# Altium footprint library ImegurasLib.PcbLib: 41 footprints (part 2 of 3)
Each footprint in its own frame and in the unit in brackets; x right, y up, seen from the top. Pads: shape width x height; smd on the part's side, far side on the other; paste and mask are expansions set on the pad; w line width, h text height; cw(c..) or ccw(c..) is an arc to the next point about the centre after c.
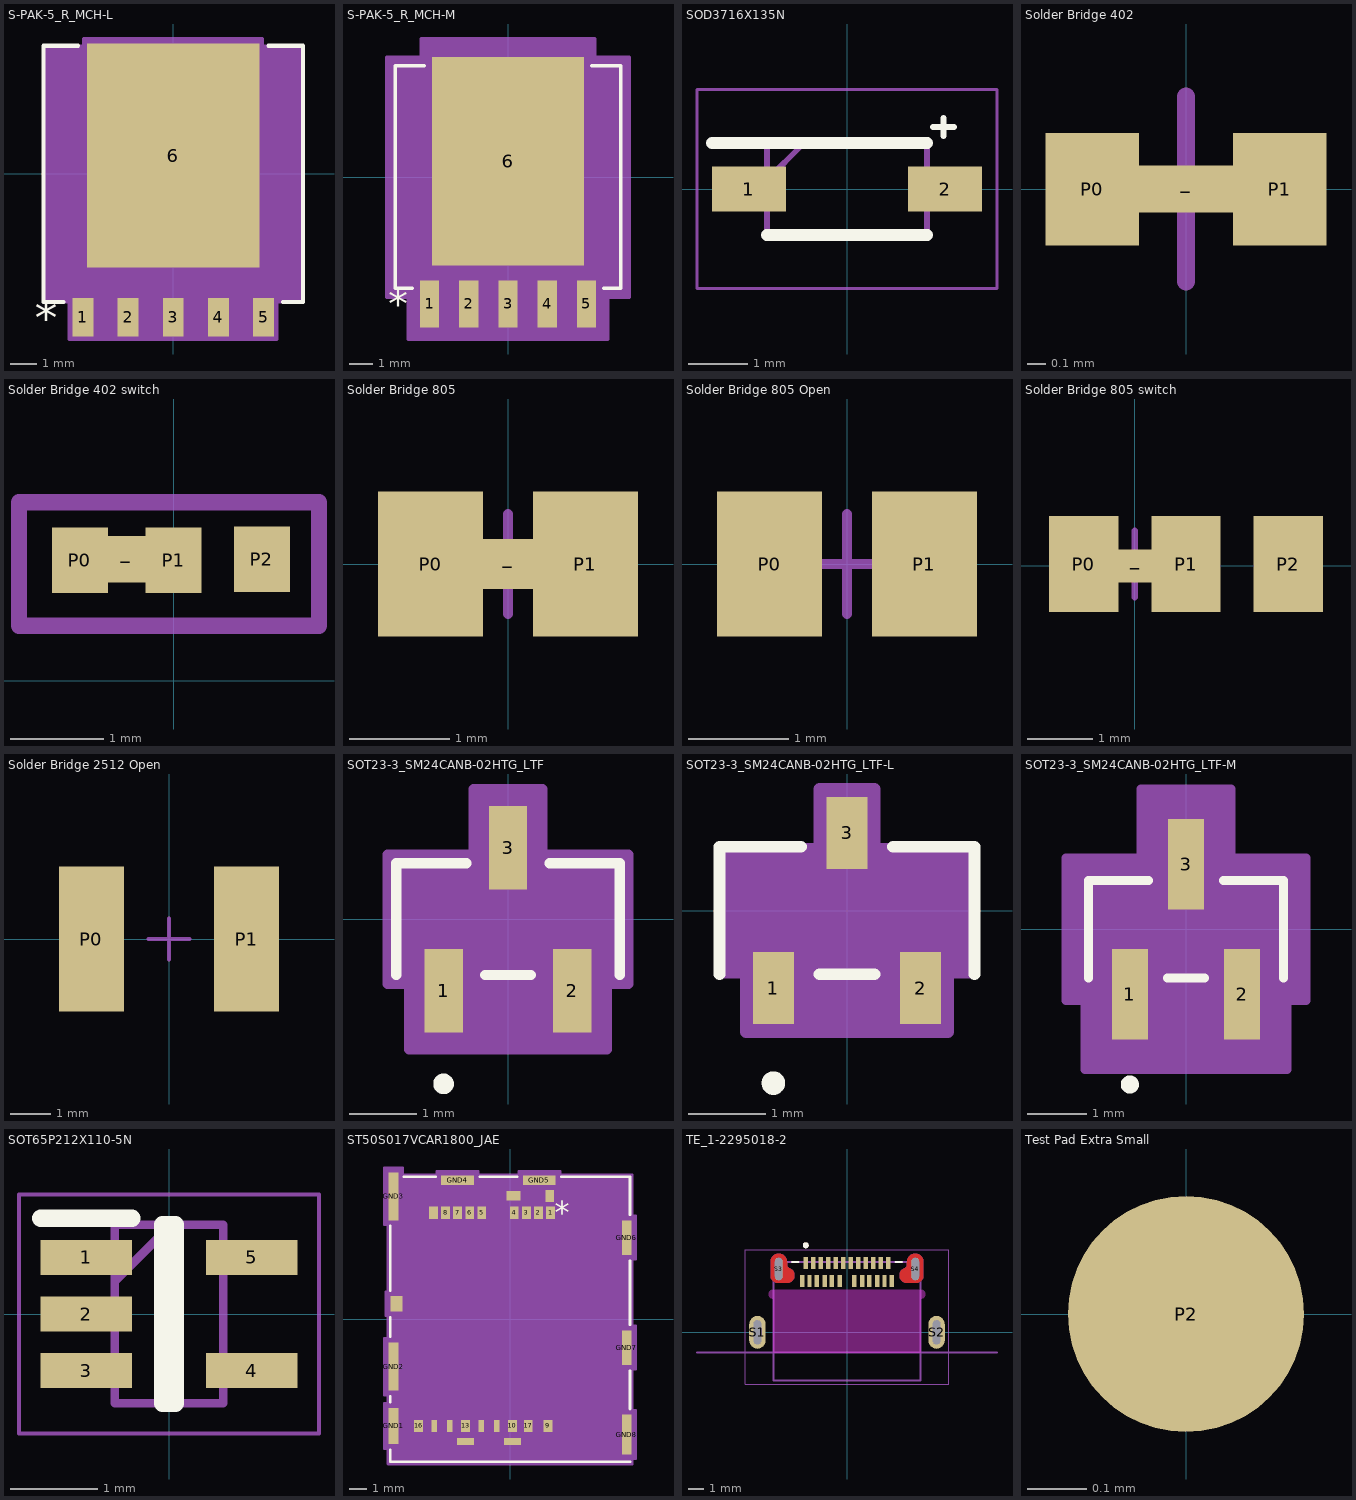
[diagram p1: the footprints below, top view; thin cyan lines are the x and y axes]

## S-PAK-5_R_MCH-L [mil]
pads (6):
  rect 31x56.75 smd paste+0 mask+0: 1(-134,-212.53) 2(-67,-212.53) 3(0,-212.53) 4(67,-212.53) 5(134,-212.53)
  rect 256x332 smd paste+0 mask+0: 6(0,27)
Top Overlay:
  lines w6: -162.6,-190 -192.5,-190 -192.5,190 -141.1,190 ; 141.1,190 192.5,190 192.5,-190 162.6,-190
  text "*" at -205,-237.53 h50
Mechanical 13:
  lines w1: -187.5,-185 -187.5,185 187.5,185 187.5,-185 -187.5,-185 ; -149.5,-235 -118.5,-235 -118.5,-185 -149.5,-185 -149.5,-235 ; -82.5,-235 -51.5,-235 -51.5,-185 -82.5,-185 -82.5,-235 ; -15.5,-235 15.5,-235 15.5,-185 -15.5,-185 -15.5,-235 ; -7.5,-200 7.5,-200 7.5,-185 -7.5,-185 -7.5,-200 ; 51.5,-235 82.5,-235 82.5,-185 51.5,-185 51.5,-235 ; 118.5,-235 149.5,-235 149.5,-185 118.5,-185 118.5,-235
  text "*" at -146.5,-200 h50
Mechanical 15:
  region: -191.5,-189 -191.5,189 -132,189 -132,200 132,200 132,189 191.5,189 191.5,-189 153.5,-189 153.5,-244.91 -153.5,-244.91 -153.5,-189
  lines w6: -191.5,-189 -153.5,-189 -153.5,-244.91 153.5,-244.91 153.5,-189 191.5,-189 191.5,189 132,189 132,200 -132,200 -132,189 -191.5,189 -191.5,-189
3D body "S-PAK-5_R_MCH.step": height 67.09, standoff -2.01, extent -187.48,-235 187.48,185

## S-PAK-5_R_MCH-M [mil]
pads (6):
  rect 32.97x80.37 smd paste+0 mask+0: 1(-134,-216.47) 2(-67,-216.47) 3(0,-216.47) 4(67,-216.47) 5(134,-216.47)
  rect 260x356 smd paste+0 mask+0: 6(0,27)
Top Overlay:
  lines w6: -163.58,-190 -192.5,-190 -192.5,190 -143.1,190 ; 143.1,190 192.5,190 192.5,-190 163.58,-190
  text "*" at -205,-241.47 h50
Mechanical 13:
  lines w1: -187.5,-185 -187.5,185 187.5,185 187.5,-185 -187.5,-185 ; -149.5,-235 -118.5,-235 -118.5,-185 -149.5,-185 -149.5,-235 ; -82.5,-235 -51.5,-235 -51.5,-185 -82.5,-185 -82.5,-235 ; -15.5,-235 15.5,-235 15.5,-185 -15.5,-185 -15.5,-235 ; -7.5,-200 7.5,-200 7.5,-185 -7.5,-185 -7.5,-200 ; 51.5,-235 82.5,-235 82.5,-185 51.5,-185 51.5,-235 ; 118.5,-235 149.5,-235 149.5,-185 118.5,-185 118.5,-235
  text "*" at -146.5,-200 h50
Mechanical 15:
  region: -207.5,-205 -207.5,205 -148,205 -148,236 148,236 148,205 207.5,205 207.5,-205 170.48,-205 170.48,-276.65 -170.48,-276.65 -170.48,-205
  lines w6: -207.5,-205 -170.48,-205 -170.48,-276.65 170.48,-276.65 170.48,-205 207.5,-205 207.5,205 148,205 148,236 -148,236 -148,205 -207.5,205 -207.5,-205
3D body "S-PAK-5_R_MCH.step": height 67.09, standoff -2.01, extent -187.48,-235 187.48,185

## SOD3716X135N [mm]
pads (2):
  rect 1.25x0.75 smd: 1(-1.65,0) 2(1.65,0)
Top Overlay:
  lines w0.1: 1.448,1.041 1.803,1.041 ; 1.626,1.041 1.626,0.889 1.626,1.194
  lines w0.2: -2.275,0.775 1.35,0.775 ; -1.35,-0.775 1.35,-0.775
Mechanical 15:
  lines w0.1: -1.35,0.15 -0.725,0.775 ; -1.35,-0.775 1.35,-0.775 1.35,0.775 -1.35,0.775 -1.35,-0.775
Mechanical 20:
  lines w0.05: -2.525,-1.675 2.525,-1.675 2.525,1.675 -2.525,1.675 -2.525,-1.675

## Solder Bridge 402 [mil] "Closed Solder Bridge"
height 23.23
pads (3):
  rect 50x10 smd: _(0,0)
  rect 20x24 smd: P0(-20,0) P1(20,0)
Mechanical 15:
  lines w3.94: -19.68,0 19.69,0 ; 0,-19.68 0,19.68

## Solder Bridge 402 switch [mm] "Closed Solder Bridge"
height 0.59
pads (4):
  rect 1x0.5 smd: _(-0.508,1.295)
  rect 0.6x0.7 smd: P0(-1.002,1.286) P1(-0.002,1.286) P2(0.94,1.295)
Mechanical 13:
  lines w0.175: -1.652,0.586 1.549,0.586 1.549,1.905 -1.652,1.905 -1.652,0.586
  text "'.Designator'" at -7.138,2.428 h1
3D body "C0402.step": height 0.37, standoff 0.01, extent -1.002,1.021 -0.002,1.551

## Solder Bridge 805 [mm] "Closed Solder Bridge"
height 0.59
pads (3):
  rect 1x0.5 smd: _(0,0)
  rect 1.05x1.45 smd: P0(-0.775,0) P1(0.775,0)
Top Solder:
  region: -0.229,0.711 0.203,0.711 0.203,-0.711 -0.229,-0.711
Mechanical 15:
  lines w0.1: -0.5,0 0.5,0 ; 0,-0.5 0,0.5

## Solder Bridge 805 Open [mm] "Open Solder Bridge"
height 0.59
pads (2):
  rect 1.05x1.45 smd: P0(-0.775,0) P1(0.775,0)
Mechanical 15:
  lines w0.1: -0.5,0 0.5,0 ; 0,-0.5 0,0.5

## Solder Bridge 805 switch [mm] "Closed Solder Bridge"
height 0.59
pads (4):
  rect 1x0.5 smd: _(0.013,-0.002)
  rect 1.05x1.45 smd: P0(-0.775,0.025) P1(0.775,0.025) P2(2.324,0.025)
Top Solder:
  region: 1.295,0.737 1.727,0.737 1.727,-0.686 1.295,-0.686
  region: -0.229,0.737 0.203,0.737 0.203,-0.686 -0.229,-0.686
Mechanical 15:
  lines w0.1: 0,-0.475 0,0.525

## Solder Bridge 2512 Open [mil] "Open Solder Bridge"
height 23.23
pads (2):
  rect 63x140 smd: P0(-75,0) P1(75,0)
Mechanical 15:
  lines w3.94: -19.68,0 19.69,0 ; 0,-19.68 0,19.68

## SOT23-3_SM24CANB-02HTG_LTF [mil]
pads (3):
  rect 22.36x48.56 smd paste+0 mask+0: 1(-37.5,-41.5) 2(37.5,-41.5) 3(0,41.5)
Top Overlay:
  circle w6: c-37.5,-95.78 r3
  lines w6: -65,-32.5 -65,32.5 -24.28,32.5 ; -13.22,-32.5 13.22,-32.5 ; 24.28,32.5 65,32.5 65,-32.5
Mechanical 13:
  circle w0: c-37.5,-17.5 r3
  lines w1: -60,-27.5 60,-27.5 60,27.5 -60,27.5 -60,-27.5 ; -47.5,-52 -47.5,-27.5 -27.5,-27.5 -27.5,-52 -47.5,-52 ; -10,27.5 10,27.5 10,52 -10,52 -10,27.5 ; 27.5,-52 27.5,-27.5 47.5,-27.5 47.5,-52 27.5,-52
Mechanical 15:
  region: -70,-37.5 -70,37.5 -20,37.5 -20,75.78 20,75.78 20,37.5 70,37.5 70,-37.5 57.5,-37.5 57.5,-75.78 -57.5,-75.78 -57.5,-37.5
  lines w6: -70,-37.5 -70,37.5 -20,37.5 -20,75.78 20,75.78 20,37.5 70,37.5 70,-37.5 57.5,-37.5 57.5,-75.78 -57.5,-75.78 -57.5,-37.5 -70,-37.5
3D body "SOT23-3_SM24CANB-02HTG_LTF.step": height 44.09, standoff 0, extent -60,-52.01 60,52.01

## SOT23-3_SM24CANB-02HTG_LTF-L [mil]
pads (3):
  rect 20.79x36.75 smd paste+0 mask+0: 1(-37.5,-39.53) 2(37.5,-39.53) 3(0,39.53)
Top Overlay:
  circle w6: c-37.5,-87.91 r3
  lines w6: -65,-32.5 -65,32.5 -23.49,32.5 ; -14.01,-32.5 14.01,-32.5 ; 23.49,32.5 65,32.5 65,-32.5
Mechanical 13:
  circle w0: c-37.5,-17.5 r3
  lines w1: -60,-27.5 -60,27.5 60,27.5 60,-27.5 -60,-27.5 ; -47.5,-52 -27.5,-52 -27.5,-27.5 -47.5,-27.5 -47.5,-52 ; -10,27.5 -10,52 10,52 10,27.5 -10,27.5 ; 27.5,-52 47.5,-52 47.5,-27.5 27.5,-27.5 27.5,-52
Mechanical 15:
  region: -64,-31.5 -64,31.5 -14,31.5 -14,61.91 14,61.91 14,31.5 64,31.5 64,-31.5 51.5,-31.5 51.5,-61.91 -51.5,-61.91 -51.5,-31.5
  lines w6: -64,-31.5 -51.5,-31.5 -51.5,-61.91 51.5,-61.91 51.5,-31.5 64,-31.5 64,31.5 14,31.5 14,61.91 -14,61.91 -14,31.5 -64,31.5 -64,-31.5
3D body "SOT23-3_SM24CANB-02HTG_LTF.step": height 44.09, standoff 0, extent -60,-52.01 60,52.01

## SOT23-3_SM24CANB-02HTG_LTF-M [mil]
pads (3):
  rect 23.94x60.37 smd paste+0 mask+0: 1(-37.5,-43.47) 2(37.5,-43.47) 3(0,43.47)
Top Overlay:
  circle w6: c-37.5,-103.65 r3
  lines w6: -65,-32.5 -65,32.5 -25.07,32.5 ; -12.43,-32.5 12.43,-32.5 ; 25.07,32.5 65,32.5 65,-32.5
Mechanical 13:
  circle w0: c-37.5,-17.5 r3
  lines w1: -60,-27.5 60,-27.5 60,27.5 -60,27.5 -60,-27.5 ; -47.5,-52 -47.5,-27.5 -27.5,-27.5 -27.5,-52 -47.5,-52 ; -10,27.5 10,27.5 10,52 -10,52 -10,27.5 ; 27.5,-52 27.5,-27.5 47.5,-27.5 47.5,-52 27.5,-52
Mechanical 15:
  region: -80,-47.5 -80,47.5 -30,47.5 -30,93.65 30,93.65 30,47.5 80,47.5 80,-47.5 67.5,-47.5 67.5,-93.65 -67.5,-93.65 -67.5,-47.5
  lines w6: -80,-47.5 -80,47.5 -30,47.5 -30,93.65 30,93.65 30,47.5 80,47.5 80,-47.5 67.5,-47.5 67.5,-93.65 -67.5,-93.65 -67.5,-47.5 -80,-47.5
3D body "SOT23-3_SM24CANB-02HTG_LTF.step": height 44.09, standoff 0, extent -60,-52.01 60,52.01

## SOT65P212X110-5N [mm]
pads (5):
  rect 1.05x0.4 smd: 1(-0.95,0.65) 2(-0.95,0) 3(-0.95,-0.65) 4(0.95,-0.65) 5(0.95,0.65)
Top Overlay:
  lines w0.2: -1.475,1.1 -0.425,1.1 ; -0.075,-1.025 -0.075,1.025 0.075,1.025 0.075,-1.025 -0.075,-1.025
Mechanical 15:
  lines w0.1: -0.625,0.375 0.025,1.025 ; -0.625,-1.025 -0.625,1.025 0.625,1.025 0.625,-1.025 -0.625,-1.025
Mechanical 20:
  lines w0.05: -1.725,-1.375 -1.725,1.375 1.725,1.375 1.725,-1.375 -1.725,-1.375
3D body "74AHC1G09GW-Q100H.stp": height 1.68, standoff 0.73, extent -1.05,-1.016 1.05,1.134

## ST50S017VCAR1800_JAE [mil]
pads (31):
  rect 20x28 smd paste+0 mask+0: 1(92.52,244.23) 2(64.96,244.23) 3(37.4,244.23) 4(9.84,244.23) 5(-64.96,244.23) 6(-92.52,244.23) 7(-120.08,244.23) 8(-147.64,244.23) 9(86.61,-243.96) 10(5.51,-243.96) 13(-101.97,-243.96) 16(-209.45,-243.96) 17(41.34,-243.96) DSW1(90.55,282.61) VDD2SW2(-175.2,244.23)
  rect 12x28 smd paste+0 mask+0: 11(-30.31,-243.96) 12(-66.14,-243.96) 14(-137.79,-243.96) 15(-173.62,-243.96)
  rect 32x22 smd paste-16 mask-16: DSW2(7.87,282.61)
  rect 22x83 smd paste-41.5 mask-41.5: GND1(-266.73,-243.96)
  rect 22x110 smd paste-55 mask-55: GND2(-266.73,-108.13) GND3(-266.73,281.63)
  rect 75x22 smd paste-37.5 mask-37.5: GND4(-120.08,318.05) GND5(66.93,318.05)
  rect 22x79 smd paste-39.5 mask-39.5: GND6(266.73,187.14) GND7(266.73,-64.83)
  rect 22x91 smd paste-45.5 mask-45.5: GND8(266.73,-263.65)
  rect 39x16 smd paste-8 mask+0: GND9(5.51,-279.39) GND10(-101.97,-279.39)
  rect 28x35 smd paste-17.5 mask-17.5: VDD2SW1(-259.84,35.57)
Top Overlay:
  lines w6: -274.5,-298.56 -274.5,-326 274.5,-326 ; -274.5,-189.36 -274.5,-176.23 ; -274.5,-40.03 -274.5,4.98 ; -274.5,66.15 -274.5,213.53 ; -242.63,326 -170.68,326 ; -69.48,326 16.33,326 ; 117.53,326 274.5,326 274.5,239.74 ; 274.5,-205.05 274.5,-117.43 ; 274.5,-12.23 274.5,134.54
  text "*" at 102.5,220 h50
Mechanical 13:
  lines w1: -269.5,-321 -269.5,321 269.5,321 269.5,-321 -269.5,-321
  text "*" at 102.5,220 h50
Mechanical 15:
  region: -279.5,-43.13 -287.73,-43.13 -287.73,-173.13 -279.5,-173.13 -279.5,-192.46 -287.73,-192.46 -287.73,-295.46 -279.5,-295.46 -279.5,-331 279.5,-331 279.5,-319.15 287.73,-319.15 287.73,-208.15 279.5,-208.15 279.5,-114.33 287.73,-114.33 287.73,-15.33 279.5,-15.33 279.5,137.64 287.73,137.64 287.73,236.64 279.5,236.64 279.5,331 114.43,331 114.43,339.05 19.43,339.05 19.43,331 -72.58,331 -72.58,339.05 -167.58,339.05 -167.58,331 -245.73,331 -245.73,346.63 -287.73,346.63 -287.73,216.63 -279.5,216.63 -279.5,63.07 -283.84,63.07 -283.84,8.07 -279.5,8.07
  lines w6: -287.73,-295.46 -279.5,-295.46 -279.5,-331 279.5,-331 279.5,-319.15 287.73,-319.15 287.73,-208.15 279.5,-208.15 279.5,-114.33 287.73,-114.33 287.73,-15.33 279.5,-15.33 279.5,137.64 287.73,137.64 287.73,236.64 279.5,236.64 279.5,331 114.43,331 114.43,339.05 19.43,339.05 19.43,331 -72.58,331 -72.58,339.05 -167.58,339.05 -167.58,331 -245.73,331 -245.73,346.63 -287.73,346.63 -287.73,216.63 -279.5,216.63 -279.5,63.07 -283.84,63.07 -283.84,8.07 -279.5,8.07 -279.5,-43.13 -287.73,-43.13 -287.73,-173.13 -279.5,-173.13 -279.5,-192.46 -287.73,-192.46 -287.73,-295.46

## TE_1-2295018-2 [mm]
height 3.6
pads (28):
  rect 0.3x0.8 smd mask+0.05: A1(-2.75,4.63) A2(-2.25,4.63) A3(-1.75,4.63) A4(-1.25,4.63) A5(-0.75,4.63) A6(-0.25,4.63) A7(0.25,4.63) A8(0.75,4.63) A9(1.25,4.63) A10(1.75,4.63) A11(2.25,4.63) A12(2.75,4.63) B1(3,3.43) B2(2.5,3.43) B3(2,3.43) B4(1.5,3.43) B5(1,3.43) B6(0.5,3.43) B7(-0.5,3.43) B8(-1,3.43) B9(-1.5,3.43) B10(-2,3.43) B11(-2.5,3.43) B12(-3,3.43)
  oval 1.1x2.2 hole 0.5 slot 1.6 at 90 deg mask+0.05: S1(-5.97,0) S2(5.97,0)
  oval 0.525x1.499 hole 0.5 slot 1.473 at 90 deg mask+0: S3(-4.55,4.22) S4(4.55,4.22)
Top Layer:
  region: 183 vertices and 0 holes, not listed, extent 3.5,3.295 5.1,5.245
  region: 183 vertices and 0 holes, not listed, extent -5.1,3.295 -3.5,5.245
Bottom Layer:
  region: 183 vertices and 0 holes, not listed, extent 3.5,3.295 5.1,5.245
  region: 183 vertices and 0 holes, not listed, extent -5.1,3.295 -3.5,5.245
Top Overlay:
  circle w0.2: c-2.75,5.8 r0.1
  lines w0.127: -3.68,4.69 -3.22,4.69 ; 3.22,4.69 3.68,4.69
Keep-Out Layer:
  board cut-out: 4.92,2.84 -4.92,2.84 -4.936,2.84 -4.951,2.838 -4.967,2.836 -4.982,2.833 -4.998,2.83 -5.013,2.825 -5.028,2.82 -5.042,2.814 -5.056,2.807 -5.07,2.8 -5.083,2.792 -5.096,2.783 -5.109,2.773 -5.121,2.763 -5.132,2.752 -5.143,2.741 -5.153,2.729 -5.163,2.716 -5.172,2.703 -5.18,2.69 -5.187,2.676 -5.194,2.662 -5.2,2.648 -5.205,2.633 -5.21,2.618 -5.213,2.602 -5.216,2.587 -5.218,2.571 -5.22,2.556 -5.22,2.54 -5.22,2.524 -5.218,2.509 -5.216,2.493 -5.213,2.478 -5.21,2.462 -5.205,2.447 -5.2,2.432 -5.194,2.418 -5.187,2.404 -5.18,2.39 -5.172,2.377 -5.163,2.364 -5.153,2.351 -5.143,2.339 -5.132,2.328 -5.121,2.317 -5.109,2.307 -5.096,2.297 -5.083,2.288 -5.07,2.28 -5.056,2.273 -5.042,2.266 -5.028,2.26 -5.013,2.255 -4.998,2.25 -4.982,2.247 -4.967,2.244 -4.951,2.242 -4.936,2.24 -4.92,2.24 -4.92,-1.36 4.92,-1.36 4.92,2.24 4.936,2.24 4.951,2.242 4.967,2.244 4.982,2.247 4.998,2.25 5.013,2.255 5.028,2.26 5.042,2.266 5.056,2.273 5.07,2.28 5.083,2.288 5.096,2.297 5.109,2.307 5.121,2.317 5.132,2.328 5.143,2.339 5.153,2.351 5.163,2.364 5.172,2.377 5.18,2.39 5.187,2.404 5.194,2.418 5.2,2.432 5.205,2.447 5.21,2.462 5.213,2.478 5.216,2.493 5.218,2.509 5.22,2.524 5.22,2.54 5.22,2.556 5.218,2.571 5.216,2.587 5.213,2.602 5.21,2.618 5.205,2.633 5.2,2.648 5.194,2.662 5.187,2.676 5.18,2.69 5.172,2.703 5.163,2.716 5.153,2.729 5.143,2.741 5.132,2.752 5.121,2.763 5.109,2.773 5.096,2.783 5.083,2.792 5.07,2.8 5.056,2.807 5.042,2.814 5.028,2.82 5.013,2.825 4.998,2.83 4.982,2.833 4.967,2.836 4.951,2.838 4.936,2.84
Mechanical 13:
  circle w0.2: c-2.75,5.8 r0.1
  lines w0.127: -10,-1.36 10,-1.36 ; -4.9,-3.21 4.9,-3.21 4.9,4.69 -4.9,4.69 -4.9,-3.21
  text "PCB EDGE" at 7,-1.2 h1.02
Mechanical 15:
  lines w0.05: -6.77,-3.46 6.77,-3.46 6.77,5.495 -6.77,5.495 -6.77,-3.46
3D body "c-1-2295018-2-b-3d.stp": height 2.43, standoff -1.16, extent -6.07,-3.269 6.07,4.826

## Test Pad Extra Small [mm] "A small test pad for HF applications"
pads (1):
  round 0.4 smd mask+0.051: P2(0,0)